# EAGLE library part NHD-C0220AA (library NewHaven)
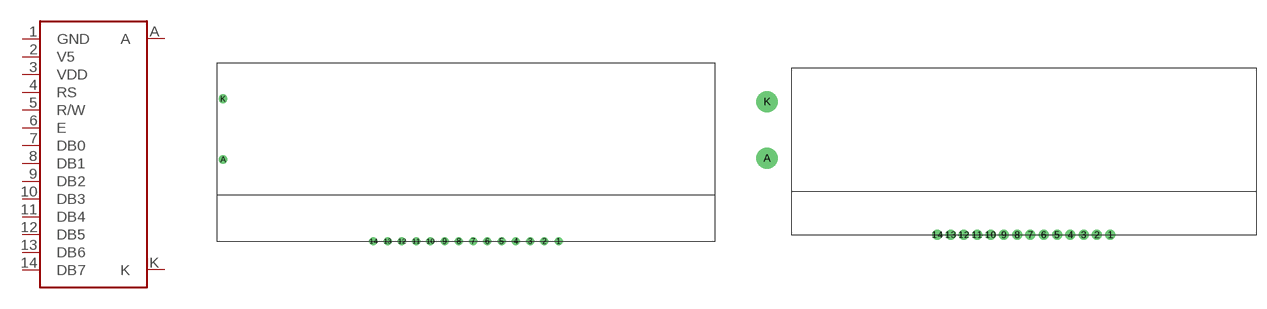
[diagram p1: symbol with the pads of C/D; footprints C/D, C_D]

Designator prefix C_D

## NHD-C0220AA  [C/D]
1  GND
2  V5
3  VDD
4  RS
5  R/W
6  E
7  DB0
8  DB1
9  DB2
10  DB3
11  DB4
12  DB5
13  DB6
14  DB7
A  A
K  K

## NHD-C0220AATEST  [C_D]
Pads as for C/D

## Footprint C/D (pad centres in mm)
drill 0.6 round: 1 13,0; 2 11,0; 3 9,0; 4 7,0; 5 5,0; 6 3,0; 7 1,0; 8 -1,0; 9 -3,0; 10 -5,0; 11 -7,0; 12 -9,0; 13 -11,0; 14 -13,0
drill 0.7 round: A -34.1,11.5; K -34.1,20

## Footprint C_D (pad centres in mm)
drill 1 round: 1 13,0; 2 11,0; 3 9,0; 4 7,0; 5 5,0; 6 3,0; 7 1,0; 8 -1,0; 9 -3,0; 10 -5,0; 11 -7,0; 12 -9,0; 13 -11,0; 14 -13,0
drill 2.2 round: A -38.6,11.5; K -38.6,20